# Altium schematic symbol library SymbolLib.SchLib: 19 symbols
Pins are listed as number, name and electrical type; pins without a type are passive.

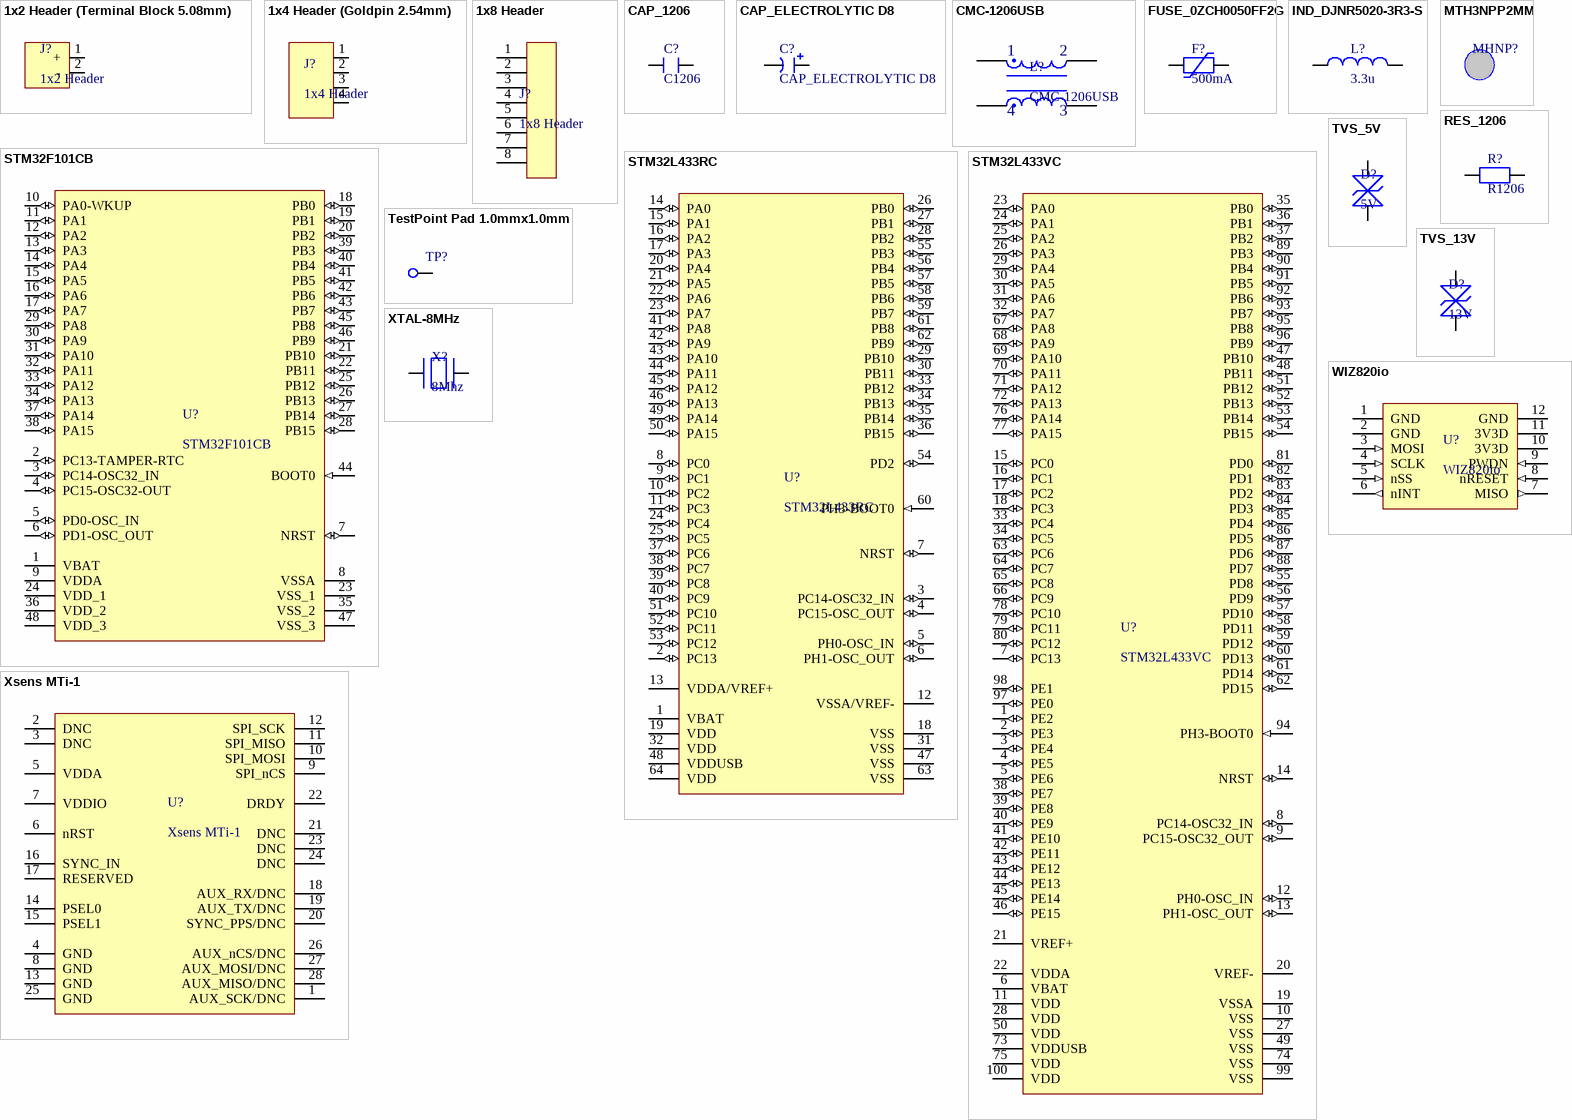
[diagram p0: symbols 1x2 Header (Terminal Block 5.08mm) to XTAL-8MHz]

## 1x2 Header (Terminal Block 5.08mm)
designator J?, comment 1x2 Header
1x2 Header, Through Hole (Terminal Block 5.08mm)
footprint 1x2 Header (Terminal Block 5.08mm)
pins: 1 + (power), 2 - (power)

## 1x4 Header (Goldpin 2.54mm)
designator J?, comment 1x4 Header
1x4 Header, Through Hole (Goldpin 2.54mm)
footprint 1x4 Header (Goldpin 2.54mm)
pins: 1, 2, 3, 4

## 1x8 Header
designator J?
1x8 Header, Through Hole (Goldpin 2.54m)
footprint 1x8 Header
pins: 1, 2, 3, 4, 5, 6, 7, 8

## CAP_1206
designator C?, comment C1206
Generic 1206/3216 capacitor
footprint CAP_1206
pins: 1, 2

## CAP_ELECTROLYTIC D8
designator C?
footprint CAP_ELECTROLYTIC D8
pins: 1, 2

## CMC-1206USB
designator L?
31nH @ 100MHz 2 Line Common Mode Choke Surface Mount 37 Ohms @ 100MHz 1A DCR 0.1 Ohms
footprint CMC-1206USB
pins: 1, 2, 3, 4

## FUSE_0ZCH0050FF2G
designator F?, comment 500mA
FUSE 500mA/16V
footprint Fuse_1210 (Fuse 0ZCH0050FF2G 500mA 16V)
pins: 1, 2

## IND_DJNR5020-3R3-S
designator L?, comment 3.3u
footprint IND_DJNR5020-3R3-S
pins: 1, 2

## MTH3NPP2MM
designator MHNP?, comment Mounting Hole Non-Plated 3.2mm  (value not drawn)
Mounting Hole Non-Plated 3.2mm drill hole
footprint MTHNP3P2MM (Mounting Hole Non-Plated, 3.2mm hole)

## RES_1206
designator R?, comment R1206
Generic 1206/3216 resistor
footprint RES_1206
pins: 1, 2

## STM32F101CB
designator U?
STM32F101CB MCU
footprint QFN-48
pins: 1 VBAT (power), 2 PC13-TAMPER-RTC (io), 3 PC14-OSC32_IN (io), 4 PC15-OSC32-OUT (io), 5 PD0-OSC_IN (io), 6 PD1-OSC_OUT (io), 7 NRST (io), 8 VSSA (power), 9 VDDA (power), 10 PA0-WKUP (io), 11 PA1 (io), 12 PA2 (io), 13 PA3 (io), 14 PA4 (io), 15 PA5 (io), 16 PA6 (io), 17 PA7 (io), 18 PB0 (io), 19 PB1 (io), 20 PB2 (io), 21 PB10 (io), 22 PB11 (io), 23 VSS_1 (power), 24 VDD_1 (power), 25 PB12 (io), 26 PB13 (io), 27 PB14 (io), 28 PB15 (io), 29 PA8 (io), 30 PA9 (io), 31 PA10 (io), 32 PA11 (io), 33 PA12 (io), 34 PA13 (io), 35 VSS_2 (power), 36 VDD_2 (power), 37 PA14 (io), 38 PA15 (io), 39 PB3 (io), 40 PB4 (io), 41 PB5 (io), 42 PB6 (io), 43 PB7 (io), 44 BOOT0 (in), 45 PB8 (io), 46 PB9 (io), 47 VSS_3 (power), 48 VDD_3 (power)

## STM32L433RC
designator U?
STM32L433RC, 80MHz, Coretx-M4
footprint LQFP64
pins: 1 VBAT (power), 2 PC13 (io), 3 PC14-OSC32_IN (io), 4 PC15-OSC_OUT (io), 5 PH0-OSC_IN (io), 6 PH1-OSC_OUT (io), 7 NRST (io), 8 PC0 (io), 9 PC1 (io), 10 PC2 (io), 11 PC3 (io), 12 VSSA/VREF- (power), 13 VDDA/VREF+ (power), 14 PA0 (io), 15 PA1 (io), 16 PA2 (io), 17 PA3 (io), 18 VSS (power), 19 VDD (power), 20 PA4 (io), 21 PA5 (io), 22 PA6 (io), 23 PA7 (io), 24 PC4 (io), 25 PC5 (io), 26 PB0 (io), 27 PB1 (io), 28 PB2 (io), 29 PB10 (io), 30 PB11 (io), 31 VSS (power), 32 VDD (power), 33 PB12 (io), 34 PB13 (io), 35 PB14 (io), 36 PB15 (io), 37 PC6 (io), 38 PC7 (io), 39 PC8 (io), 40 PC9 (io), 41 PA8 (io), 42 PA9 (io), 43 PA10 (io), 44 PA11 (io), 45 PA12 (io), 46 PA13 (io), 47 VSS (power), 48 VDDUSB (power), 49 PA14 (io), 50 PA15 (io), 51 PC10 (io), 52 PC11 (io), 53 PC12 (io), 54 PD2 (io), 55 PB3 (io), 56 PB4 (io), 57 PB5 (io), 58 PB6 (io), 59 PB7 (io), 60 PH3-BOOT0 (in), 61 PB8 (io), 62 PB9 (io), 63 VSS (power), 64 VDD (power)

## STM32L433VC
designator U?
STM32L433RC, 80MHz, Coretx-M4
footprint LQFP100
pins: 1 PE2 (io), 2 PE3 (io), 3 PE4 (io), 4 PE5 (io), 5 PE6 (io), 6 VBAT (power), 7 PC13 (io), 8 PC14-OSC32_IN (io), 9 PC15-OSC32_OUT (io), 10 VSS (power), 11 VDD (power), 12 PH0-OSC_IN (io), 13 PH1-OSC_OUT (io), 14 NRST (io), 15 PC0 (io), 16 PC1 (io), 17 PC2 (io), 18 PC3 (io), 19 VSSA (power), 20 VREF- (power), 21 VREF+ (power), 22 VDDA (power), 23 PA0 (io), 24 PA1 (io), 25 PA2 (io), 26 PA3 (io), 27 VSS (power), 28 VDD (power), 29 PA4 (io), 30 PA5 (io), 31 PA6 (io), 32 PA7 (io), 33 PC4 (io), 34 PC5 (io), 35 PB0 (io), 36 PB1 (io), 37 PB2 (io), 38 PE7 (io), 39 PE8 (io), 40 PE9 (io), 41 PE10 (io), 42 PE11 (io), 43 PE12 (io), 44 PE13 (io), 45 PE14 (io), 46 PE15 (io), 47 PB10 (io), 48 PB11 (io), 49 VSS (power), 50 VDD (power), 51 PB12 (io), 52 PB13 (io), 53 PB14 (io), 54 PB15 (io), 55 PD8 (io), 56 PD9 (io), 57 PD10 (io), 58 PD11 (io), 59 PD12 (io), 60 PD13 (io), 61 PD14 (io), 62 PD15 (io), 63 PC6 (io), 64 PC7 (io), 65 PC8 (io), 66 PC9 (io), 67 PA8 (io), 68 PA9 (io), 69 PA10 (io), 70 PA11 (io), 71 PA12 (io), 72 PA13 (io), 73 VDDUSB (power), 74 VSS (power), 75 VDD (power), 76 PA14 (io), 77 PA15 (io), 78 PC10 (io), 79 PC11 (io), 80 PC12 (io), 81 PD0 (io), 82 PD1 (io), 83 PD2 (io), 84 PD3 (io), 85 PD4 (io), 86 PD5 (io), 87 PD6 (io), 88 PD7 (io), 89 PB3 (io), 90 PB4 (io), 91 PB5 (io), 92 PB6 (io), 93 PB7 (io), 94 PH3-BOOT0 (in), 95 PB8 (io), 96 PB9 (io), 97 PE0 (io), 98 PE1 (io), 99 VSS (power), 100 VDD (power)

## TestPoint Pad 1.0mmx1.0mm
designator TP?  (value not drawn)
footprint TestPoint Pad 1.0mmx1.0mm
pins: 1

## TVS_5V
designator D?, comment 5V
TVS Diode TVS_SMAJ5.0CA  5V Bidirectional
footprint TVS_Littlefuse
pins: 1, 2

## TVS_13V
designator D?, comment 13V
TVS Diode TVS_SMAJ13CA  13V Bidirectional
footprint TVS_Littlefuse
pins: 1, 2

## WIZ820io
designator U?
2x6 Famale Header for WIZ820io ETH controller (W5200)
footprint 2x6 Header - 20.32 gap
pins: 1 GND, 2 GND, 3 MOSI (in), 4 SCLK (in), 5 nSS (in), 6 nINT (out), 7 MISO (out), 8 nRESET (in), 9 PWDN (in), 10 3V3D, 11 3V3D, 12 GND

## Xsens MTi-1
designator U?
PLCC-28SMD socket for Xsens MTi-1 (SPI)
footprint PLCC-28SMD 1.27MM NINIGI
pins: 1 AUX_SCK/DNC, 2 DNC, 3 DNC, 4 GND, 5 VDDA, 6 nRST, 7 VDDIO, 8 GND, 9 SPI_nCS, 10 SPI_MOSI, 11 SPI_MISO, 12 SPI_SCK, 13 GND, 14 PSEL0, 15 PSEL1, 16 SYNC_IN, 17 RESERVED, 18 AUX_RX/DNC, 19 AUX_TX/DNC, 20 SYNC_PPS/DNC, 21 DNC, 22 DRDY, 23 DNC, 24 DNC, 25 GND, 26 AUX_nCS/DNC, 27 AUX_MOSI/DNC, 28 AUX_MISO/DNC

## XTAL-8MHz
designator X?, comment 8Mhz
XTAL-8MHz
footprint XTAL-12.5x4.8
pins: 1, 2